# Altium footprint library Package_DFN_QFN_SON.PcbLib: 34 footprints (part 3 of 3)
Each footprint in its own frame and in the unit in brackets; x right, y up, seen from the top. Pads: shape width x height; smd on the part's side, far side on the other; paste and mask are expansions set on the pad; w line width, h text height; cw(c..) or ccw(c..) is an arc to the next point about the centre after c.
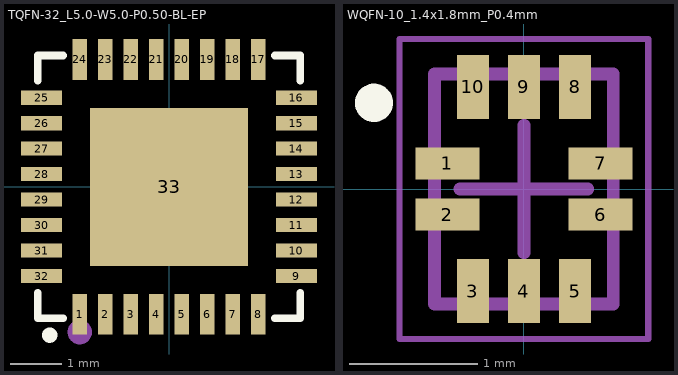
[diagram p2: the footprints below, top view; thin cyan lines are the x and y axes]

## TQFN-32_L5.0-W5.0-P0.50-BL-EP [mm]
pads (33):
  rect 0.28x0.8 smd: 1(-1.75,-2.5) 2(-1.25,-2.5) 3(-0.75,-2.5) 4(-0.25,-2.5) 5(0.25,-2.5) 6(0.75,-2.5) 7(1.25,-2.5) 8(1.75,-2.5) 17(1.75,2.5) 18(1.25,2.5) 19(0.75,2.5) 20(0.25,2.5) 21(-0.25,2.5) 22(-0.75,2.5) 23(-1.25,2.5) 24(-1.75,2.5)
  rect 0.8x0.28 smd: 9(2.5,-1.75) 10(2.5,-1.25) 11(2.5,-0.75) 12(2.5,-0.25) 13(2.5,0.25) 14(2.5,0.75) 15(2.5,1.25) 16(2.5,1.75) 25(-2.5,1.75) 26(-2.5,1.25) 27(-2.5,0.75) 28(-2.5,0.25) 29(-2.5,-0.25) 30(-2.5,-0.75) 31(-2.5,-1.25) 32(-2.5,-1.75)
  rect 3.1x3.1 smd: 33(0,0)
Top Overlay:
  circle w0.15: c-2.34,-2.91 r0.075
  lines w0.152: -2.576,-2.08 -2.576,-2.576 -2.08,-2.576 ; -2.576,2.08 -2.576,2.576 -2.08,2.576 ; 2.08,-2.576 2.576,-2.576 2.576,-2.08 ; 2.08,2.576 2.576,2.576 2.576,2.08
Mechanical 15:
  circle w0.24: c-1.75,-2.85 r0.12

## WQFN-10_1.4x1.8mm_P0.4mm [mm] "PQFN, 10-Leads, Body 1.40x1.80mm, Pitch 0.40mm, IPC Medium Density"
height 0.55
pads (10):
  rect 0.5x0.25 smd: 1(-0.6,0.2) 2(-0.6,-0.2) 6(0.6,-0.2) 7(0.6,0.2)
  rect 0.25x0.5 smd: 3(-0.4,-0.8) 4(0,-0.8) 5(0.4,-0.8) 8(0.4,0.8) 9(0,0.8) 10(-0.4,0.8)
Top Overlay:
  circle w0.2: c-1.175,0.675 r0.05
Mechanical 13:
  lines w0.1: -0.7,-0.9 0.7,-0.9 0.7,0.9 -0.7,0.9 -0.7,-0.9
Mechanical 15:
  lines w0.05: -0.975,-1.175 0.975,-1.175 0.975,1.175 -0.975,1.175 -0.975,-1.175
  lines w0.1: -0.5,0 0.5,0 ; 0,-0.5 0,0.5
3D body "PQFN40P140X180X55-10N.step": height 0.55, standoff 0, extent -0.7,-0.9 0.7,0.9